# Altium footprint library OSHW_CAP_Altium_Vault_Generic_20201223.PcbLib: 129 footprints (part 2 of 9)
Each footprint in its own frame and in the unit in brackets; x right, y up, seen from the top. Pads: shape width x height; smd on the part's side, far side on the other; paste and mask are expansions set on the pad; w line width, h text height; cw(c..) or ccw(c..) is an arc to the next point about the centre after c.
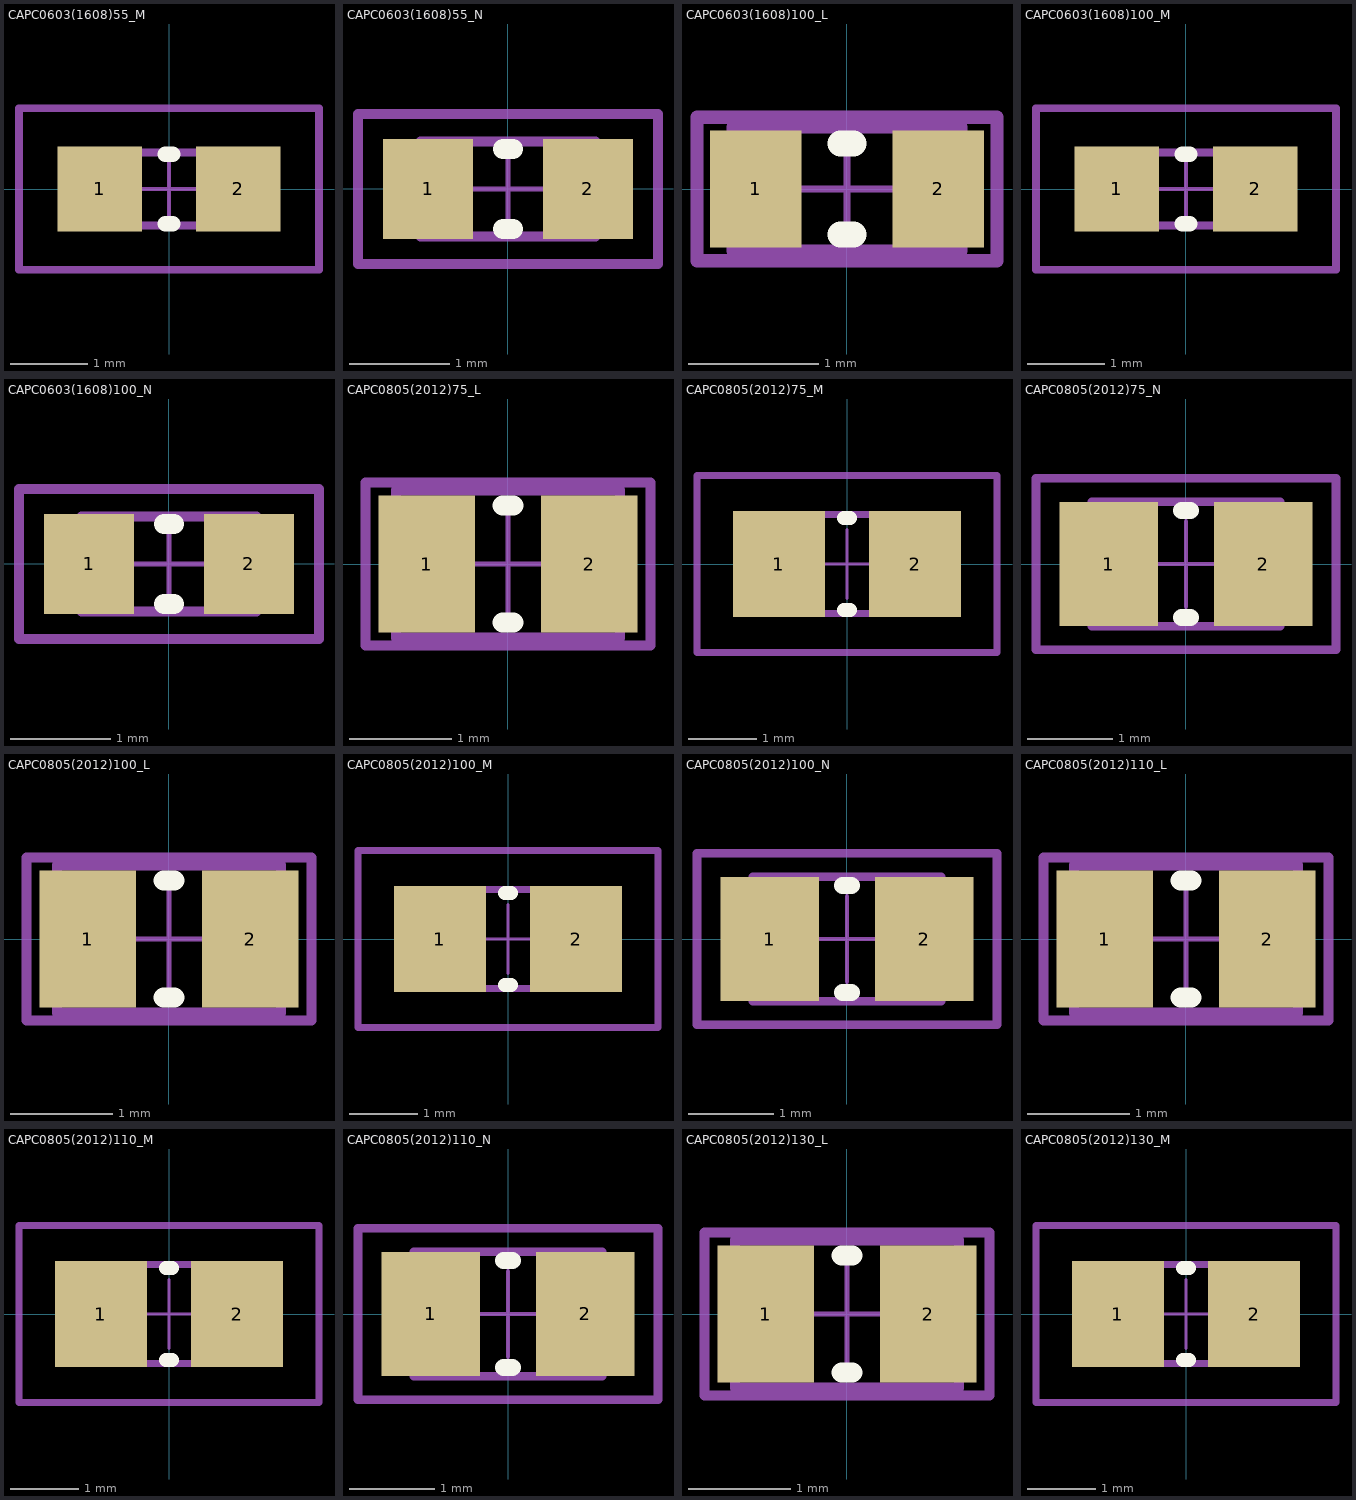
[diagram p1: the footprints below, top view; thin cyan lines are the x and y axes]

## CAPC0603(1608)55_M [mm] "Chip Capacitor, Body 1.6x0.8mm, Height 0.55mm, IPC Low Density"
height 0.55
pads (2):
  rect 1.1x1.1 smd: 1(-0.9,0) 2(0.9,0)
Top Overlay:
  lines w0.2: -0.05,-0.45 0.05,-0.45 ; -0.05,0.45 0.05,0.45
Top Assembly:
  lines w0.1: -1.95,-1.05 -1.95,1.05 1.95,1.05 1.95,-1.05 -1.95,-1.05
  text "'.Designator'" at 0,0 h1
Top Courtyard:
  lines w0.05: -0.475,0 0.475,0 ; 0,-0.475 0,0.475 ; -1.95,-1.05 1.95,-1.05 1.95,1.05 -1.95,1.05 -1.95,-1.05
Top Component Outline:
  lines w0.1: -0.875,-0.475 0.875,-0.475 0.875,0.475 -0.875,0.475 -0.875,-0.475
3D body: height 0.55, standoff 0, extent -0.525,-0.475 0.525,0.475
3D body: height 0.55, standoff 0, extent -0.875,-0.475 -0.525,0.475
3D body: height 0.55, standoff 0, extent 0.525,-0.475 0.875,0.475

## CAPC0603(1608)55_N [mm] "Chip Capacitor, Body 1.6x0.8mm, Height 0.55mm, IPC Medium Density"
height 0.55
pads (2):
  rect 0.9x1 smd: 1(-0.8,0) 2(0.8,0)
Top Overlay:
  lines w0.2: -0.05,-0.4 0.05,-0.4 ; -0.05,0.4 0.05,0.4
Top Assembly:
  lines w0.1: -1.5,-0.75 -1.5,0.75 1.5,0.75 1.5,-0.75 -1.5,-0.75
  text "'.Designator'" at 0,0 h1
Top Courtyard:
  lines w0.05: -0.475,0 0.475,0 ; 0,-0.475 0,0.475 ; -1.5,-0.75 1.5,-0.75 1.5,0.75 -1.5,0.75 -1.5,-0.75
Top Component Outline:
  lines w0.1: -0.875,-0.475 0.875,-0.475 0.875,0.475 -0.875,0.475 -0.875,-0.475
3D body: height 0.55, standoff 0, extent -0.525,-0.475 0.525,0.475
3D body: height 0.55, standoff 0, extent -0.875,-0.475 -0.525,0.475
3D body: height 0.55, standoff 0, extent 0.525,-0.475 0.875,0.475

## CAPC0603(1608)100_L [mm] "Chip Capacitor, Body 1.6x0.8mm, Height 1.0mm, IPC High Density"
height 1
pads (2):
  rect 0.7x0.9 smd: 1(-0.7,0) 2(0.7,0)
Top Overlay:
  lines w0.2: -0.05,-0.35 0.05,-0.35 ; -0.05,0.35 0.05,0.35
Top Assembly:
  lines w0.1: -1.15,-0.55 -1.15,0.55 1.15,0.55 1.15,-0.55 -1.15,-0.55
  text "'.Designator'" at 0,0 h1
Top Courtyard:
  lines w0.05: -0.475,0 0.475,0 ; 0,-0.475 0,0.475 ; -1.15,-0.55 1.15,-0.55 1.15,0.55 -1.15,0.55 -1.15,-0.55
Top Component Outline:
  lines w0.1: -0.875,-0.475 -0.875,0.475 0.875,0.475 0.875,-0.475 -0.875,-0.475
3D body: height 1, standoff 0, extent -0.525,-0.475 0.525,0.475
3D body: height 1, standoff 0, extent -0.875,-0.475 -0.525,0.475
3D body: height 1, standoff 0, extent 0.525,-0.475 0.875,0.475

## CAPC0603(1608)100_M [mm] "Chip Capacitor, Body 1.6x0.8mm, Height 1.0mm, IPC Low Density"
height 1
pads (2):
  rect 1.1x1.1 smd: 1(-0.9,0) 2(0.9,0)
Top Overlay:
  lines w0.2: -0.05,-0.45 0.05,-0.45 ; -0.05,0.45 0.05,0.45
Top Assembly:
  lines w0.1: -1.95,-1.05 -1.95,1.05 1.95,1.05 1.95,-1.05 -1.95,-1.05
  text "'.Designator'" at 0,0 h1
Top Courtyard:
  lines w0.05: -0.475,0 0.475,0 ; 0,-0.475 0,0.475 ; -1.95,-1.05 1.95,-1.05 1.95,1.05 -1.95,1.05 -1.95,-1.05
Top Component Outline:
  lines w0.1: -0.875,-0.475 -0.875,0.475 0.875,0.475 0.875,-0.475 -0.875,-0.475
3D body: height 1, standoff 0, extent -0.525,-0.475 0.525,0.475
3D body: height 1, standoff 0, extent -0.875,-0.475 -0.525,0.475
3D body: height 1, standoff 0, extent 0.525,-0.475 0.875,0.475

## CAPC0603(1608)100_N [mm] "Chip Capacitor, Body 1.6x0.8mm, Height 1.0mm, IPC Medium Density"
height 1
pads (2):
  rect 0.9x1 smd: 1(-0.8,0) 2(0.8,0)
Top Overlay:
  lines w0.2: -0.05,-0.4 0.05,-0.4 ; -0.05,0.4 0.05,0.4
Top Assembly:
  lines w0.1: -1.5,-0.75 -1.5,0.75 1.5,0.75 1.5,-0.75 -1.5,-0.75
  text "'.Designator'" at 0,0 h1
Top Courtyard:
  lines w0.05: -0.475,0 0.475,0 ; 0,-0.475 0,0.475 ; -1.5,-0.75 -1.5,0.75 1.5,0.75 1.5,-0.75 -1.5,-0.75
Top Component Outline:
  lines w0.1: -0.875,-0.475 -0.875,0.475 0.875,0.475 0.875,-0.475 -0.875,-0.475
3D body: height 1, standoff 0, extent 0.525,-0.475 0.875,0.475
3D body: height 1, standoff 0, extent -0.875,-0.475 -0.525,0.475
3D body: height 1, standoff 0, extent -0.525,-0.475 0.525,0.475

## CAPC0805(2012)75_L [mm] "Chip Capacitor, Body 2.0x1.2mm, Height 0.75mm, IPC High Density"
height 0.75
pads (2):
  rect 0.95x1.35 smd: 1(-0.8,0) 2(0.8,0)
Top Overlay:
  lines w0.2: -0.05,-0.575 0.05,-0.575 ; -0.05,0.575 0.05,0.575
Top Assembly:
  lines w0.1: -1.4,-0.8 -1.4,0.8 1.4,0.8 1.4,-0.8 -1.4,-0.8
  text "'.Designator'" at 0,0 h1
Top Courtyard:
  lines w0.05: -0.5,0 0.5,0 ; 0,-0.5 0,0.5 ; -1.4,-0.8 1.4,-0.8 1.4,0.8 -1.4,0.8 -1.4,-0.8
Top Component Outline:
  lines w0.1: -1.1,-0.725 1.1,-0.725 1.1,0.725 -1.1,0.725 -1.1,-0.725
3D body: height 0.75, standoff 0, extent -0.6,-0.725 0.6,0.725
3D body: height 0.75, standoff 0, extent -1.1,-0.725 -0.6,0.725
3D body: height 0.75, standoff 0, extent 0.6,-0.725 1.1,0.725

## CAPC0805(2012)75_M [mm] "Chip Capacitor, Body 2.0x1.2mm, Height 0.75mm, IPC Low Density"
height 0.75
pads (2):
  rect 1.35x1.55 smd: 1(-1,0) 2(1,0)
Top Overlay:
  lines w0.2: -0.05,-0.675 0.05,-0.675 ; -0.05,0.675 0.05,0.675
Top Assembly:
  lines w0.1: -2.2,-1.3 -2.2,1.3 2.2,1.3 2.2,-1.3 -2.2,-1.3
  text "'.Designator'" at 0,0 h1
Top Courtyard:
  lines w0.05: -0.5,0 0.5,0 ; 0,-0.5 0,0.5 ; -2.2,-1.3 2.2,-1.3 2.2,1.3 -2.2,1.3 -2.2,-1.3
Top Component Outline:
  lines w0.1: -1.1,-0.725 1.1,-0.725 1.1,0.725 -1.1,0.725 -1.1,-0.725
3D body: height 0.75, standoff 0, extent -0.6,-0.725 0.6,0.725
3D body: height 0.75, standoff 0, extent -1.1,-0.725 -0.6,0.725
3D body: height 0.75, standoff 0, extent 0.6,-0.725 1.1,0.725

## CAPC0805(2012)75_N [mm] "Chip Capacitor, Body 2.0x1.2mm, Height 0.75mm, IPC Medium Density"
height 0.75
pads (2):
  rect 1.15x1.45 smd: 1(-0.9,0) 2(0.9,0)
Top Overlay:
  lines w0.2: -0.05,-0.625 0.05,-0.625 ; -0.05,0.625 0.05,0.625
Top Assembly:
  lines w0.1: -1.75,-1 -1.75,1 1.75,1 1.75,-1 -1.75,-1
  text "'.Designator'" at 0,0 h1
Top Courtyard:
  lines w0.05: -0.5,0 0.5,0 ; 0,-0.5 0,0.5 ; -1.75,-1 1.75,-1 1.75,1 -1.75,1 -1.75,-1
Top Component Outline:
  lines w0.1: -1.1,-0.725 -1.1,0.725 1.1,0.725 1.1,-0.725 -1.1,-0.725
3D body: height 0.75, standoff 0, extent -0.6,-0.725 0.6,0.725
3D body: height 0.75, standoff 0, extent -1.1,-0.725 -0.6,0.725
3D body: height 0.75, standoff 0, extent 0.6,-0.725 1.1,0.725

## CAPC0805(2012)100_L [mm] "Chip Capacitor, Body 2.0x1.2mm, Height 1.0mm, IPC High Density"
height 1
pads (2):
  rect 0.95x1.35 smd: 1(-0.8,0) 2(0.8,0)
Top Overlay:
  lines w0.2: -0.05,-0.575 0.05,-0.575 ; -0.05,0.575 0.05,0.575
Top Assembly:
  lines w0.1: -1.4,-0.8 -1.4,0.8 1.4,0.8 1.4,-0.8 -1.4,-0.8
  text "'.Designator'" at 0,0 h1
Top Courtyard:
  lines w0.05: -0.5,0 0.5,0 ; 0,-0.5 0,0.5 ; -1.4,-0.8 1.4,-0.8 1.4,0.8 -1.4,0.8 -1.4,-0.8
Top Component Outline:
  lines w0.1: -1.1,-0.725 1.1,-0.725 1.1,0.725 -1.1,0.725 -1.1,-0.725
3D body: height 1, standoff 0, extent -0.6,-0.725 0.6,0.725
3D body: height 1, standoff 0, extent -1.1,-0.725 -0.6,0.725
3D body: height 1, standoff 0, extent 0.6,-0.725 1.1,0.725

## CAPC0805(2012)100_M [mm] "Chip Capacitor, Body 2.0x1.2mm, Height 1.0mm, IPC Low Density"
height 1
pads (2):
  rect 1.35x1.55 smd: 1(-1,0) 2(1,0)
Top Overlay:
  lines w0.2: -0.05,-0.675 0.05,-0.675 ; -0.05,0.675 0.05,0.675
Top Assembly:
  lines w0.1: -2.2,-1.3 -2.2,1.3 2.2,1.3 2.2,-1.3 -2.2,-1.3
  text "'.Designator'" at 0,0 h1
Top Courtyard:
  lines w0.05: -0.5,0 0.5,0 ; 0,-0.5 0,0.5 ; -2.2,-1.3 -2.2,1.3 2.2,1.3 2.2,-1.3 -2.2,-1.3
Top Component Outline:
  lines w0.1: -1.1,-0.725 -1.1,0.725 1.1,0.725 1.1,-0.725 -1.1,-0.725
3D body: height 1, standoff 0, extent 0.6,-0.725 1.1,0.725
3D body: height 1, standoff 0, extent -1.1,-0.725 -0.6,0.725
3D body: height 1, standoff 0, extent -0.6,-0.725 0.6,0.725

## CAPC0805(2012)100_N [mm] "Chip Capacitor, Body 2.0x1.2mm, Height 1.0mm, IPC Medium Density"
height 1
pads (2):
  rect 1.15x1.45 smd: 1(-0.9,0) 2(0.9,0)
Top Overlay:
  lines w0.2: -0.05,-0.625 0.05,-0.625 ; -0.05,0.625 0.05,0.625
Top Assembly:
  lines w0.1: -1.75,-1 -1.75,1 1.75,1 1.75,-1 -1.75,-1
  text "'.Designator'" at 0,0 h1
Top Courtyard:
  lines w0.05: -0.5,0 0.5,0 ; 0,-0.5 0,0.5 ; -1.75,-1 1.75,-1 1.75,1 -1.75,1 -1.75,-1
Top Component Outline:
  lines w0.1: -1.1,-0.725 1.1,-0.725 1.1,0.725 -1.1,0.725 -1.1,-0.725
3D body: height 1, standoff 0, extent -0.6,-0.725 0.6,0.725
3D body: height 1, standoff 0, extent -1.1,-0.725 -0.6,0.725
3D body: height 1, standoff 0, extent 0.6,-0.725 1.1,0.725

## CAPC0805(2012)110_L [mm] "Chip Capacitor, Body 2.0x1.2mm, Height 1.1mm, IPC High Density"
height 1.1
pads (2):
  rect 0.95x1.35 smd: 1(-0.8,0) 2(0.8,0)
Top Overlay:
  lines w0.2: -0.05,-0.575 0.05,-0.575 ; -0.05,0.575 0.05,0.575
Top Assembly:
  lines w0.1: -1.4,-0.8 -1.4,0.8 1.4,0.8 1.4,-0.8 -1.4,-0.8
  text "'.Designator'" at 0,0 h1
Top Courtyard:
  lines w0.05: -0.5,0 0.5,0 ; 0,-0.5 0,0.5 ; -1.4,-0.8 1.4,-0.8 1.4,0.8 -1.4,0.8 -1.4,-0.8
Top Component Outline:
  lines w0.1: -1.1,-0.725 1.1,-0.725 1.1,0.725 -1.1,0.725 -1.1,-0.725
3D body: height 1.1, standoff 0, extent -0.6,-0.725 0.6,0.725
3D body: height 1.1, standoff 0, extent -1.1,-0.725 -0.6,0.725
3D body: height 1.1, standoff 0, extent 0.6,-0.725 1.1,0.725

## CAPC0805(2012)110_M [mm] "Chip Capacitor, Body 2.0x1.2mm, Height 1.1mm, IPC Low Density"
height 1.1
pads (2):
  rect 1.35x1.55 smd: 1(-1,0) 2(1,0)
Top Overlay:
  lines w0.2: -0.05,-0.675 0.05,-0.675 ; -0.05,0.675 0.05,0.675
Top Assembly:
  lines w0.1: -2.2,-1.3 2.2,-1.3 2.2,1.3 -2.2,1.3 -2.2,-1.3
  text "'.Designator'" at 0,0 h1
Top Courtyard:
  lines w0.05: -0.5,0 0.5,0 ; 0,-0.5 0,0.5 ; -2.2,-1.3 2.2,-1.3 2.2,1.3 -2.2,1.3 -2.2,-1.3
Top Component Outline:
  lines w0.1: -1.1,-0.725 1.1,-0.725 1.1,0.725 -1.1,0.725 -1.1,-0.725
3D body: height 1.1, standoff 0, extent -0.6,-0.725 0.6,0.725
3D body: height 1.1, standoff 0, extent -1.1,-0.725 -0.6,0.725
3D body: height 1.1, standoff 0, extent 0.6,-0.725 1.1,0.725

## CAPC0805(2012)110_N [mm] "Chip Capacitor, Body 2.0x1.2mm, Height 1.1mm, IPC Medium Density"
height 1.1
pads (2):
  rect 1.15x1.45 smd: 1(-0.9,0) 2(0.9,0)
Top Overlay:
  lines w0.2: -0.05,-0.625 0.05,-0.625 ; -0.05,0.625 0.05,0.625
Top Assembly:
  lines w0.1: -1.75,-1 -1.75,1 1.75,1 1.75,-1 -1.75,-1
  text "'.Designator'" at 0,0 h1
Top Courtyard:
  lines w0.05: -0.5,0 0.5,0 ; 0,-0.5 0,0.5 ; -1.75,-1 1.75,-1 1.75,1 -1.75,1 -1.75,-1
Top Component Outline:
  lines w0.1: -1.1,-0.725 1.1,-0.725 1.1,0.725 -1.1,0.725 -1.1,-0.725
3D body: height 1.1, standoff 0, extent -0.6,-0.725 0.6,0.725
3D body: height 1.1, standoff 0, extent -1.1,-0.725 -0.6,0.725
3D body: height 1.1, standoff 0, extent 0.6,-0.725 1.1,0.725

## CAPC0805(2012)130_L [mm] "Chip Capacitor, Body 2.0x1.2mm, Height 1.3mm, IPC High Density"
height 1.3
pads (2):
  rect 0.95x1.35 smd: 1(-0.8,0) 2(0.8,0)
Top Overlay:
  lines w0.2: -0.05,-0.575 0.05,-0.575 ; -0.05,0.575 0.05,0.575
Top Assembly:
  lines w0.1: -1.4,-0.8 1.4,-0.8 1.4,0.8 -1.4,0.8 -1.4,-0.8
  text "'.Designator'" at 0,0 h1
Top Courtyard:
  lines w0.05: -0.5,0 0.5,0 ; 0,-0.5 0,0.5 ; -1.4,-0.8 1.4,-0.8 1.4,0.8 -1.4,0.8 -1.4,-0.8
Top Component Outline:
  lines w0.1: -1.1,-0.725 1.1,-0.725 1.1,0.725 -1.1,0.725 -1.1,-0.725
3D body: height 1.3, standoff 0, extent -0.6,-0.725 0.6,0.725
3D body: height 1.3, standoff 0, extent -1.1,-0.725 -0.6,0.725
3D body: height 1.3, standoff 0, extent 0.6,-0.725 1.1,0.725

## CAPC0805(2012)130_M [mm] "Chip Capacitor, Body 2.0x1.2mm, Height 1.3mm, IPC Low Density"
height 1.3
pads (2):
  rect 1.35x1.55 smd: 1(-1,0) 2(1,0)
Top Overlay:
  lines w0.2: -0.05,-0.675 0.05,-0.675 ; -0.05,0.675 0.05,0.675
Top Assembly:
  lines w0.1: -2.2,-1.3 -2.2,1.3 2.2,1.3 2.2,-1.3 -2.2,-1.3
  text "'.Designator'" at 0,0 h1
Top Courtyard:
  lines w0.05: -0.5,0 0.5,0 ; 0,-0.5 0,0.5 ; -2.2,-1.3 2.2,-1.3 2.2,1.3 -2.2,1.3 -2.2,-1.3
Top Component Outline:
  lines w0.1: -1.1,-0.725 1.1,-0.725 1.1,0.725 -1.1,0.725 -1.1,-0.725
3D body: height 1.3, standoff 0, extent -0.6,-0.725 0.6,0.725
3D body: height 1.3, standoff 0, extent -1.1,-0.725 -0.6,0.725
3D body: height 1.3, standoff 0, extent 0.6,-0.725 1.1,0.725